# EAGLE library part MCP2562FD (library LM555-Jessica-Ly)
MCP2562FD Can Tranciever Datasheet <https://ww1.microchip.com/downloads/en/DeviceDoc/20005284A.pdf>
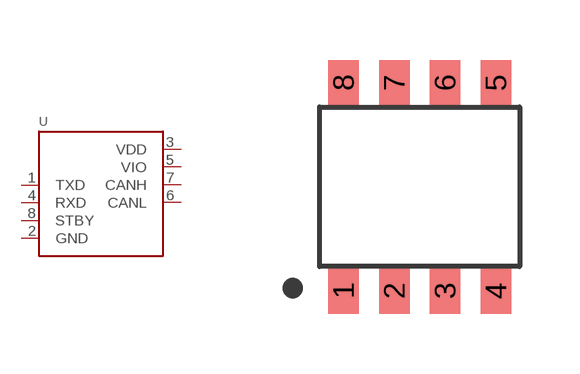
[diagram p33: symbol with the pads of SOIC-08(NARROW,0.15"); footprint SOIC-08(NARROW,0.15")]

Designator prefix U

## MCP2562FD (ALT_DKPN: MCP2562-E/SN-ND; ALT_MANUFACTURER: Microchip Technology; ALT_MOPN: 579-MCP2562-E/SN; ALT_MPN: MCP2562-E/SN; DKPN: MCP2562FD-E/SN-ND; MANUFACTURER: Microchip Technology; MOPN: 579-MCP2562FD-E/SN; MPN: MCP2562FD-E/SN)  [SOIC-08(NARROW,0.15")]
1  TXD  in
2  GND  pwr
3  VDD  pwr
4  RXD  out
5  VIO  pwr
6  CANL
7  CANH
8  STBY  pas

## Footprint SOIC-08(NARROW,0.15") (pad centres in mm)
SOIC-8 Datasheet <https://www.analog.com/media/en/package-pcb-resources/package/pkg_pdf/ltc-legacy-soic/05081610_G_SO8.pdf>
smd 0.762 x 1.143: 1 -1.905,-2.603; 2 -0.635,-2.603; 3 0.635,-2.603; 4 1.905,-2.603; 5 1.905,2.603; 6 0.635,2.603; 7 -0.635,2.603; 8 -1.905,2.603